# Altium footprint library fw_pattern.PcbLib: 1 footprints
Each footprint in its own frame and in the unit in brackets; x right, y up, seen from the top. Pads: shape width x height; smd on the part's side, far side on the other; paste and mask are expansions set on the pad; w line width, h text height; cw(c..) or ccw(c..) is an arc to the next point about the centre after c.
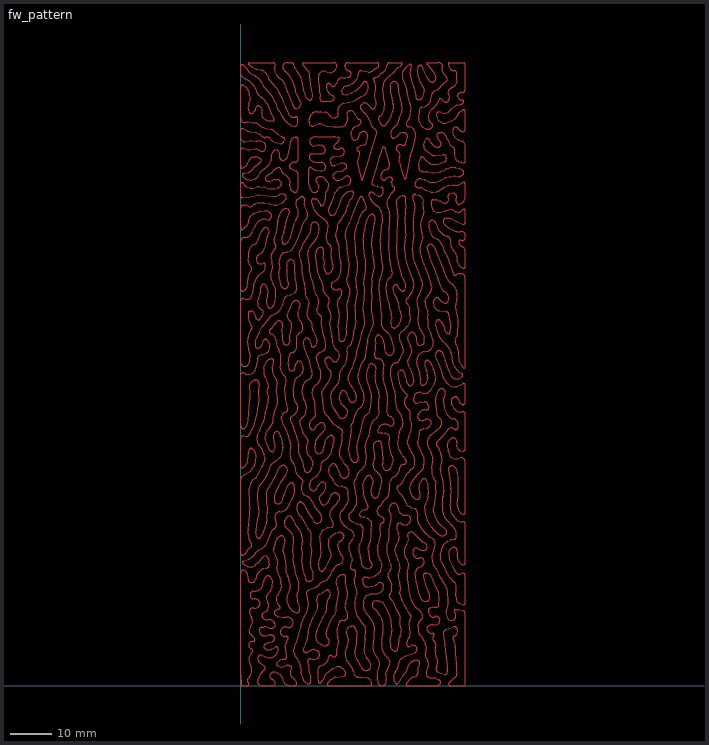
[diagram p0: the footprint, top view; thin cyan lines are the x and y axes]

## fw_pattern [mil]
pads (1):
  rect 4x4 smd: 1(8.21,3037.17)
Top Layer:
  drawing of 5785 lines, arcs and shapes, not listed